# Altium schematic symbol library Encoder,Rotary,18PPR,Thru.Schlib: 1 symbol
Pins are listed as number, name and electrical type; pins without a type are passive.

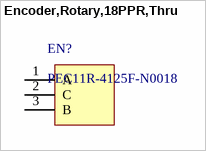
[diagram p0: symbol Encoder,Rotary,18PPR,Thru]

## Encoder,Rotary,18PPR,Thru
designator EN?, comment PEC11R-4125F-N0018
Rotary Encoder Mechanical 18 Quadrature (Incremental) Vertical
pins: 1 A, 2 C, 3 B